# Altium schematic symbol library HX711LIB.SchLib: 1 symbol
Pins are listed as number, name and electrical type; pins without a type are passive.

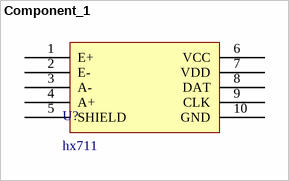
[diagram p0: symbol Component_1]

## Component_1
designator U?, comment hx711
footprint PCBComponent_1
pins: 1 E+, 2 E-, 3 A-, 4 A+, 5 SHIELD, 6 VCC, 7 VDD, 8 DAT, 9 CLK, 10 GND